# EAGLE library part LS7766SO (library lsi-computer-systems)
32-BIT SINGLE- AXIS/DUAL-AXIS QUADRATURE COUNTER Source: http://www.lsicsi.com/pdfs/Data_Sheets/LS7766.pdf
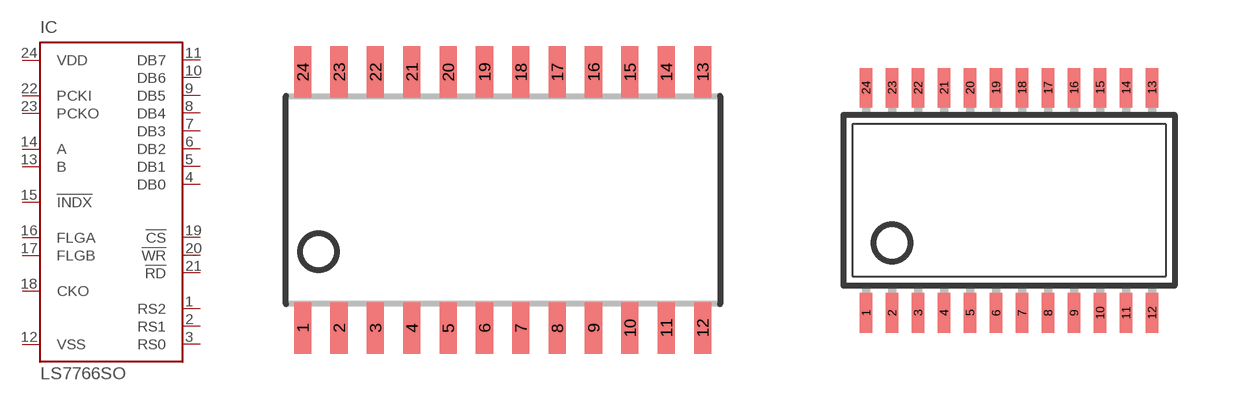
[diagram p1: symbol with the pads of SOIC24L; footprints SOIC24L, TSSOP24]

Designator prefix IC

## LS7766SO-S  [SOIC24L]
1  RS2  in
2  RS1  in
3  RS0  in
4  DB0  hiz
5  DB1  hiz
6  DB2  hiz
7  DB3  hiz
8  DB4  hiz
9  DB5  hiz
10  DB6  hiz
11  DB7  hiz
12  VSS  pwr
13  B  in
14  A  in
15  !INDX  in
16  FLGA  out
17  FLGB  out
18  CKO  out
19  !CS  in
20  !WR  in
21  !RD  in
22  PCKI  in
23  PCKO  out
24  VDD  pwr

## LS7766SO-TS  [TSSOP24]
Pads as for SOIC24L

## Footprint SOIC24L (pad centres in mm)
SMALL OUTLINE PACKAGE 15.4 x 10.3 Source: http://www.lsicsi.com/pdfs/Drawings/SOIC%20Outline%20Dwgs.pdf
smd 0.6 x 1.8: 1 -6.985,-4.475; 2 -5.715,-4.475; 3 -4.445,-4.475; 4 -3.175,-4.475; 5 -1.905,-4.475; 6 -0.635,-4.475; 7 0.635,-4.475; 8 1.905,-4.475; 9 3.175,-4.475; 10 4.445,-4.475; 11 5.715,-4.475; 12 6.985,-4.475; 13 6.985,4.475; 14 5.715,4.475; 15 4.445,4.475; 16 3.175,4.475; 17 1.905,4.475; 18 0.635,4.475; 19 -0.635,4.475; 20 -1.905,4.475; 21 -3.175,4.475; 22 -4.445,4.475; 23 -5.715,4.475; 24 -6.985,4.475

## Footprint TSSOP24 (pad centres in mm)
Thin Shrink Small Outline Plastic 24 Source: http://www.lsicsi.com/pdfs/Drawings/TSSOP_OD.pdf
smd 0.305 x 0.991: 1 -3.575,-2.818; 2 -2.925,-2.818; 3 -2.275,-2.818; 4 -1.625,-2.818; 5 -0.975,-2.818; 6 -0.325,-2.818; 7 0.325,-2.818; 8 0.975,-2.818; 9 1.625,-2.818; 10 2.275,-2.818; 11 2.925,-2.818; 12 3.575,-2.818; 13 3.575,2.818; 14 2.925,2.818; 15 2.275,2.818; 16 1.625,2.818; 17 0.975,2.818; 18 0.325,2.818; 19 -0.325,2.818; 20 -0.975,2.818; 21 -1.625,2.818; 22 -2.275,2.818; 23 -2.925,2.818; 24 -3.575,2.818